# EAGLE library part SIC467ED-T1-GE3 (library ruark2)
Buck Switching Regulator IC Positive Adjustable 0.8V 1 Output 6A PowerPAK® MLP55-27 60V
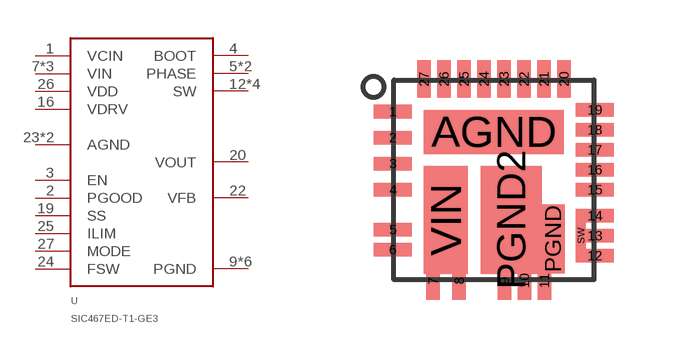
[diagram p152: symbol with the pads of MLP55-27L; footprint MLP55-27L]

Designator prefix U

## SIC467ED-T1-GE3 (PARTNO: SIC467ED-T1-GE3CT-ND)  [MLP55-27L]
1  VCIN
2  PGOOD
3  EN
4  BOOT
5  PHASE
6  PHASE
7  VIN
8  VIN
9  PGND
10  PGND
11  PGND
12  SW
13  SW
14  SW
16  VDRV
17  PGND
19  SS
20  VOUT
22  VFB
23  AGND
24  FSW
25  ILIM
26  VDD
27  MODE
AGND  AGND
PGND  PGND
PGND2  PGND
SW  SW
VIN  VIN

## Footprint MLP55-27L (pad centres in mm)
smd 0.95 x 0.34: 1 -0.025,4.207; 2 -0.025,3.555; 3 -0.025,2.902; 4 -0.025,2.25; 5 -0.025,1.25; 6 -0.025,0.75; 12 5.025,0.6; 13 5.025,1.1; 14 5.025,1.6; 15 5.025,2.25; 16 5.025,2.75; 17 5.025,3.25; 18 5.025,3.75; 19 5.025,4.25
smd 0.34 x 0.95: 7 0.98,-0.025; 8 1.63,-0.025; 9 2.76,-0.025; 10 3.26,-0.025; 11 3.76,-0.025; 20 4.25,5.025; 21 3.75,5.025; 22 3.25,5.025; 23 2.75,5.025; 24 2.25,5.025; 25 1.75,5.025; 26 1.25,5.025; 27 0.75,5.025
smd 3.5 x 1.1: AGND 2.5,3.7
smd 0.58 x 1.73: PGND 3.98,1.02
smd 1.52 x 2.7: PGND2 2.93,1.5
smd 0.25 x 1: SW 4.675,1.1
smd 1.1 x 2.7: VIN 1.3,1.5